# EAGLE library part QPC6324 (library VNA)
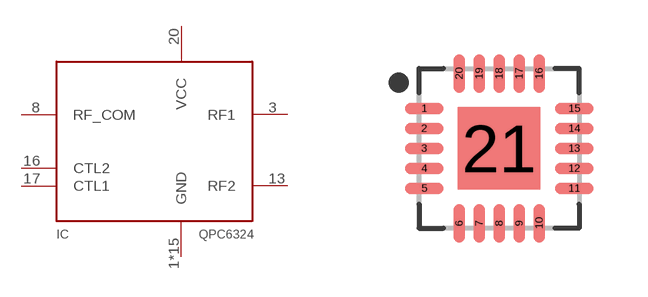
[diagram p0: symbol with the pads of QFN50P400X400X75-21T206; footprint QFN50P400X400X75-21T206]

Designator prefix IC

## QPC6324  [QFN50P400X400X75-21T206]
1  GND
2  GND
3  RF1
4  GND
5  GND
6  GND
7  GND
8  RF_COM
9  GND
10  GND
11  GND
12  GND
13  RF2
14  GND
15  GND
16  CTL2
17  CTL1
18  GND
19  GND
20  VCC
21  GND

## Footprint QFN50P400X400X75-21T206 (pad centres in mm)
20-QFN, 0.50 mm pitch, 4.00 X 4.00 X 0.75 mm body, 2.06 X 2.06 mm thermal pad 20-pin QFN package with 0.50 mm pitch with body size 4.00 X 4.00 X 0.75 mm and thermal pad size 2.06 X 2.06 mm
smd 0.962 x 0.282: 1 -1.875,1; 2 -1.875,0.5; 3 -1.875,0; 4 -1.875,-0.5; 5 -1.875,-1; 11 1.875,-1; 12 1.875,-0.5; 13 1.875,0; 14 1.875,0.5; 15 1.875,1
smd 0.282 x 0.962: 6 -1,-1.875; 7 -0.5,-1.875; 8 0,-1.875; 9 0.5,-1.875; 10 1,-1.875; 16 1,1.875; 17 0.5,1.875; 18 0,1.875; 19 -0.5,1.875; 20 -1,1.875
smd 2.06 x 2.06: 21 0,0